# EAGLE library part CONN_HTST-108-04-X-D-RA (library X16-Pi-Shield)
Connector to Backplane
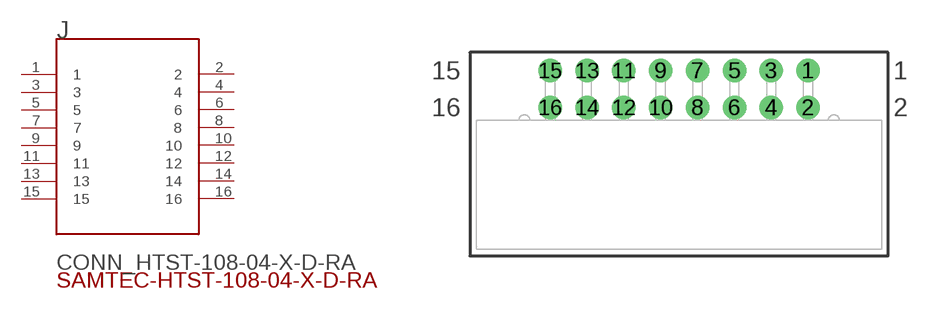
[diagram p6: symbol with the pads of SAMTEC-HTST-108-04-X-D-RA; footprint SAMTEC-HTST-108-04-X-D-RA]

Designator prefix J

## CONN_HTST-108-04-X-D-RAJ  [SAMTEC-HTST-108-04-X-D-RA]
1  1  pas
2  2  pas
3  3  pas
4  4  pas
5  5  pas
6  6  pas
7  7  pas
8  8  pas
9  9  pas
10  10  pas
11  11  pas
12  12  pas
13  13  pas
14  14  pas
15  15  pas
16  16  pas

## Footprint SAMTEC-HTST-108-04-X-D-RA (pad centres in mm)
translated Allegro footprint
drill 1.02 pad 1.62: 1 8.89,7.874; 2 8.89,5.334; 3 6.35,7.874; 4 6.35,5.334; 5 3.81,7.874; 6 3.81,5.334; 7 1.27,7.874; 8 1.27,5.334; 9 -1.27,7.874; 10 -1.27,5.334; 11 -3.81,7.874; 12 -3.81,5.334; 13 -6.35,7.874; 14 -6.35,5.334; 15 -8.89,7.874; 16 -8.89,5.334